# Altium footprint library fuse.PcbLib: 1 footprints
Each footprint in its own frame and in the unit in brackets; x right, y up, seen from the top. Pads: shape width x height; smd on the part's side, far side on the other; paste and mask are expansions set on the pad; w line width, h text height; cw(c..) or ccw(c..) is an arc to the next point about the centre after c.
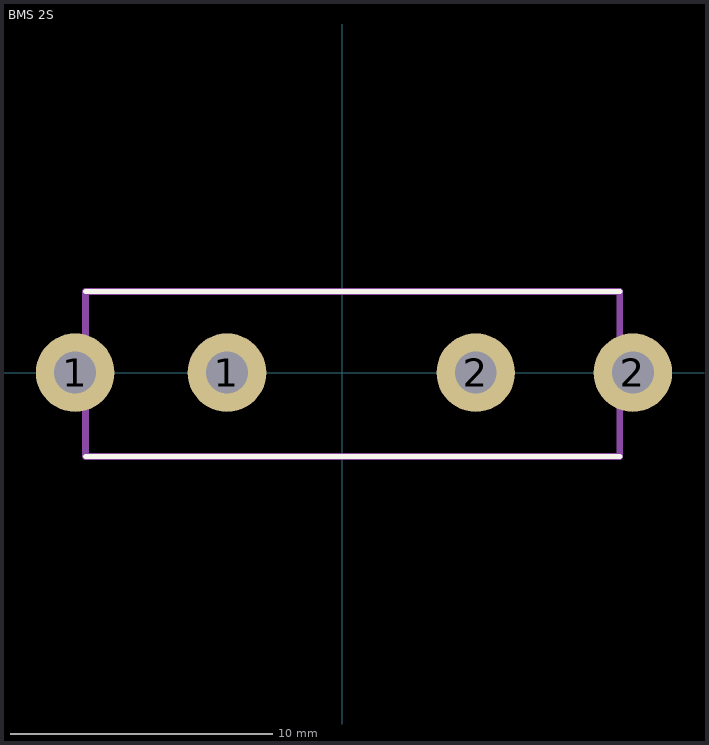
[diagram p0: the footprint, top view; thin cyan lines are the x and y axes]

## BMS 2S [mm]
height 0.55
pads (4):
  round 3 / inner oval 3x4 / far side round 3 hole 1.6: 1(-10.2,0) 1(-4.4,0) 2(5.1,0) 2(11.1,0)
Top Overlay:
  lines w0.2: -9.8,-3.2 10.6,-3.2 ; -9.8,3.1 10.6,3.1
Top Assembly:
  lines w0.254: -9.8,-3.2 -9.8,3.1 10.6,3.1 10.6,-3.2 -9.8,-3.2
  text "'.Designator'" at -0.975,-0.35 h0.7
3D body "ALSRobot-Fuse.STEP": height 10.59, standoff -2.31, extent -10.178,-3.1 11.1,3.092